# Altium integrated library Linear Technology Power Management Battery Management.IntLib: 626 symbols (part 18 of 56)
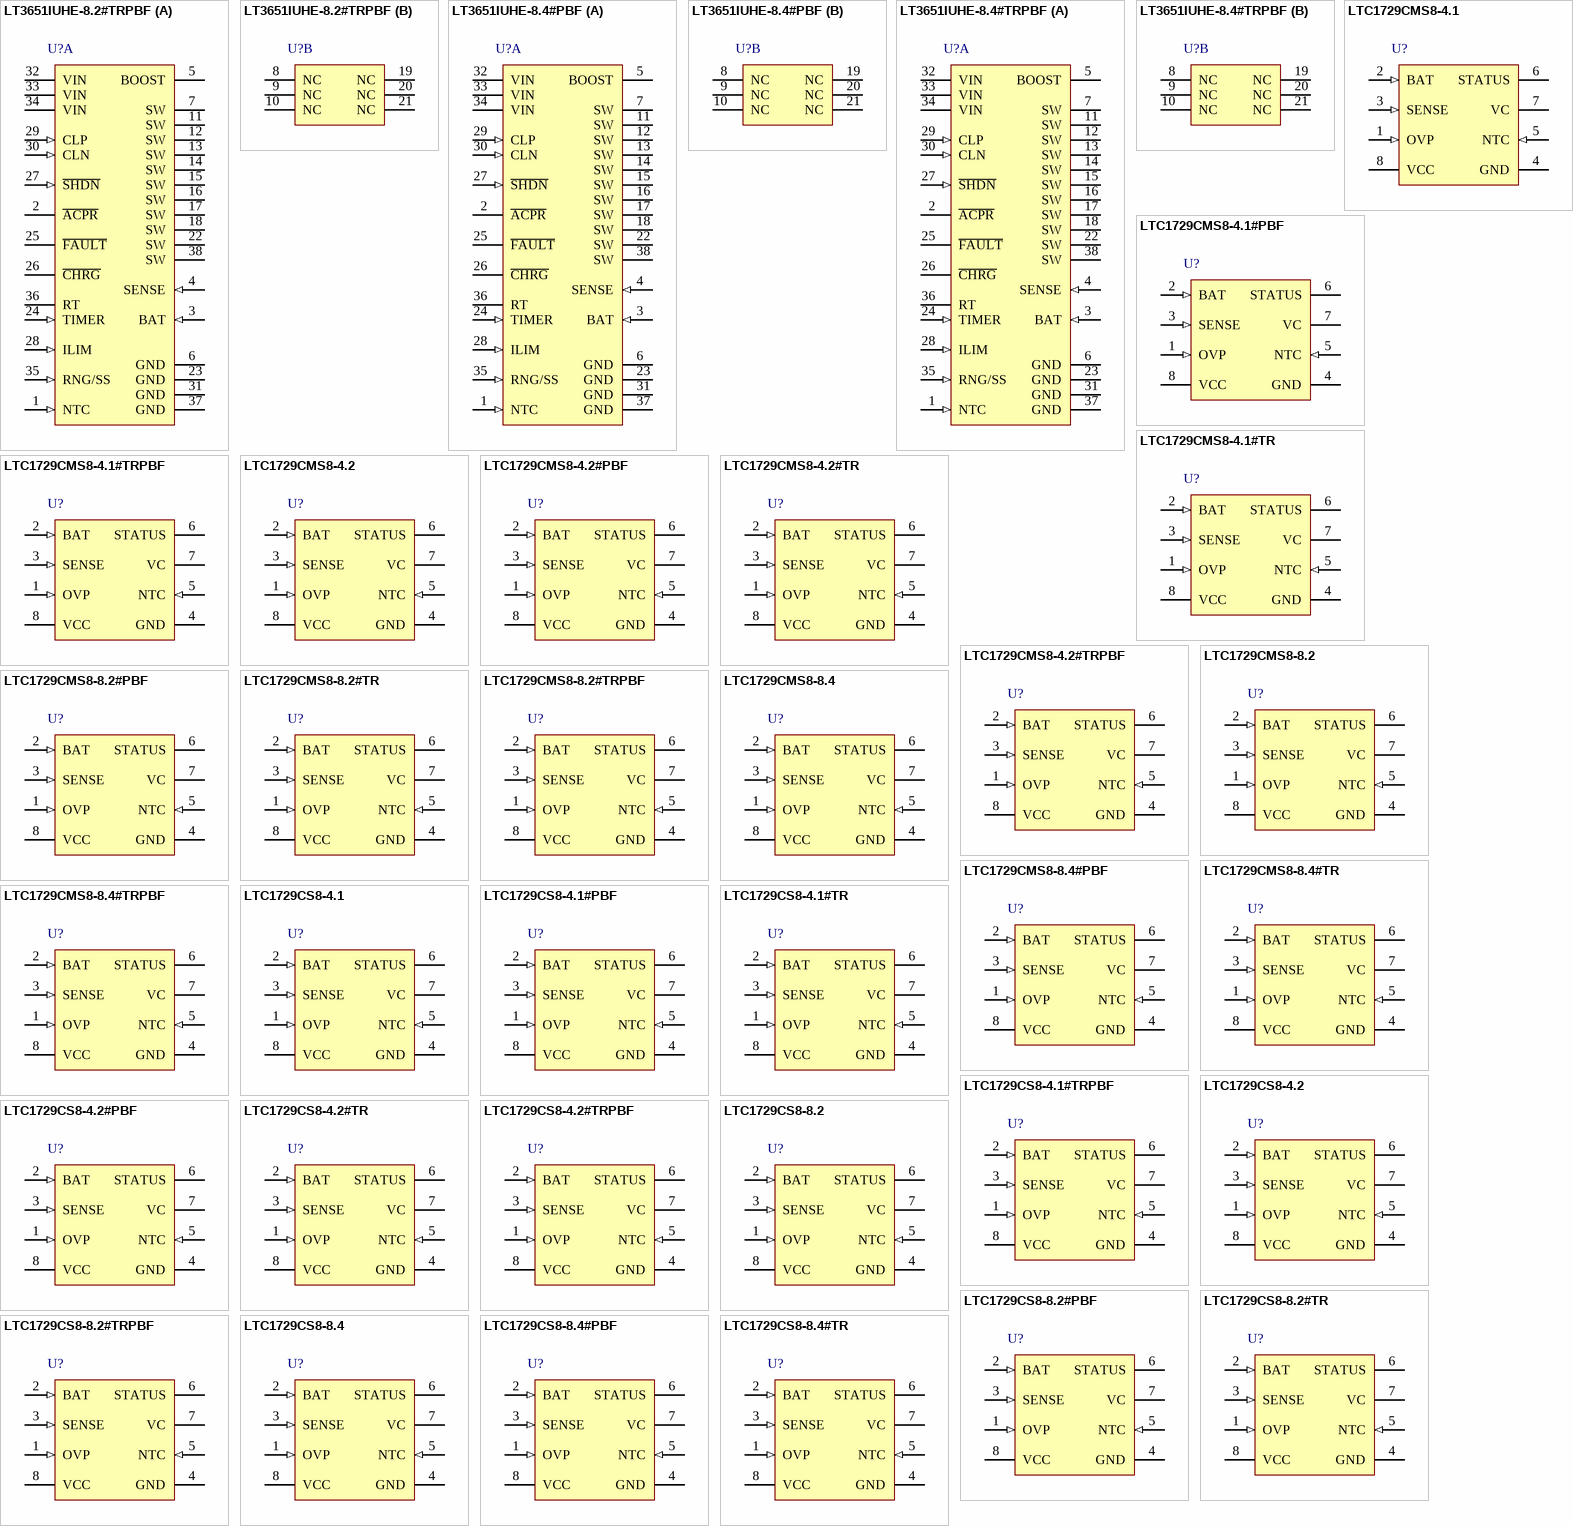
[diagram p39: symbols LT3651IUHE-8.2#TRPBF to LTC1729CS8-8.4#TR]

## LTC1729CS8-8.4#TR
designator U?
Li-Ion Battery Charger Termination Controller, 8-pin SOIC (S8-8), 0 to 70 degC, Tape and Reel; Manufacturer: Linear Technology; PartNumber: LTC1729CS8-8.4#TR; Battery Chemistry: Li-Ion, Li-Polymer, LiFePO4, NiCd, NiMH, Lead Acid; PackageVersion: Rev. G, 03/2012; PackageReference: S8-8; PackageDescription: 8-Pin Plastic Small Outline (Narrow .150 Inch), Body 4.9 x 3.9 mm, Pitch 1.27 mm; Supplier 1: Digi-Key; Supplier Part Number 1: LTC1729CS8-8.4#TR-ND; Packing: Tape and Reel; RoHS: FALSE; Type of Charger: Termination Controller; Mounting Technology: Surface Mount; ComponentLink1Description: Manufacturer URL; ComponentLink1URL: http://www.linear.com/; ComponentLink2Description: Datasheet; ComponentLink2URL: http://cds.linear.com/docs/en/datasheet/1729f.pdf; ComponentLink3Description: Package Specification; ComponentLink3URL: http://cds.linear.com/docs/en/packaging/05081610_G_SO8.pdf
footprint LT-S8-8_N (SOIC, 8-Leads, Body 5x4mm, Pitch 1.27mm, IPC Medium Density)
footprint LT-S8-8_L (SOIC, 8-Leads, Body 5x4mm, Pitch 1.27mm, IPC High Density)
footprint LT-S8-8_M (SOIC, 8-Leads, Body 5x4mm, Pitch 1.27mm, IPC Low Density)
pins: 1 OVP (in) "Connection to an Internal Precision ResistorDivider Used as a Voltage Feedback Monitor for Constant-Voltage Mode Charging.", 2 BAT (in) "Input to Battery Monitor Circuits and OVP Resistor Divider. The battery monitor circuits activate trickle charge preconditioning, battery present detection and C/10 current detection. This pin is in a high impedance state (See Datasheet)", 3 SENSE (in) "Input to C/10 Current Detection Circuit.This pin sinks 100uA during the Charge state which is used to program the C/10 current threshold.", 4 GND (power) "Ground.", 5 NTC (in) "Input to the NTC Thermistor Monitoring Circuits. When the voltage on this pin is above 2.79V (cold) or below 0.405V (hot), the state machine is locked in the present state and the timer is stopped. This is called the Hold (See Datasheet)", 6 STATUS (hiz) "Open-Drain Output for C/10 Charge Termination Detection Circuit. When in the Charge state,this pin is pulled low.Once the charge current drops below the C/10 current threshold for three seconds, the pull-down transistor is (See Datasheet)", 7 VC (oc) "Open-Drain Output for Turning Off the Charger. When this pin is open circuit, the charger is active. Normally this pin allows the charger to be active for three hours.", 8 VCC (power) "Input Supply. For 4.1V or 4.2V single cell operation, VCC should be between 8V and 28V with the IC turning off when VCC drops below 6V. For 2-cell applications, the undervoltage lockout is 10.4V with a minimum VCC of 12V. (See Datasheet)"

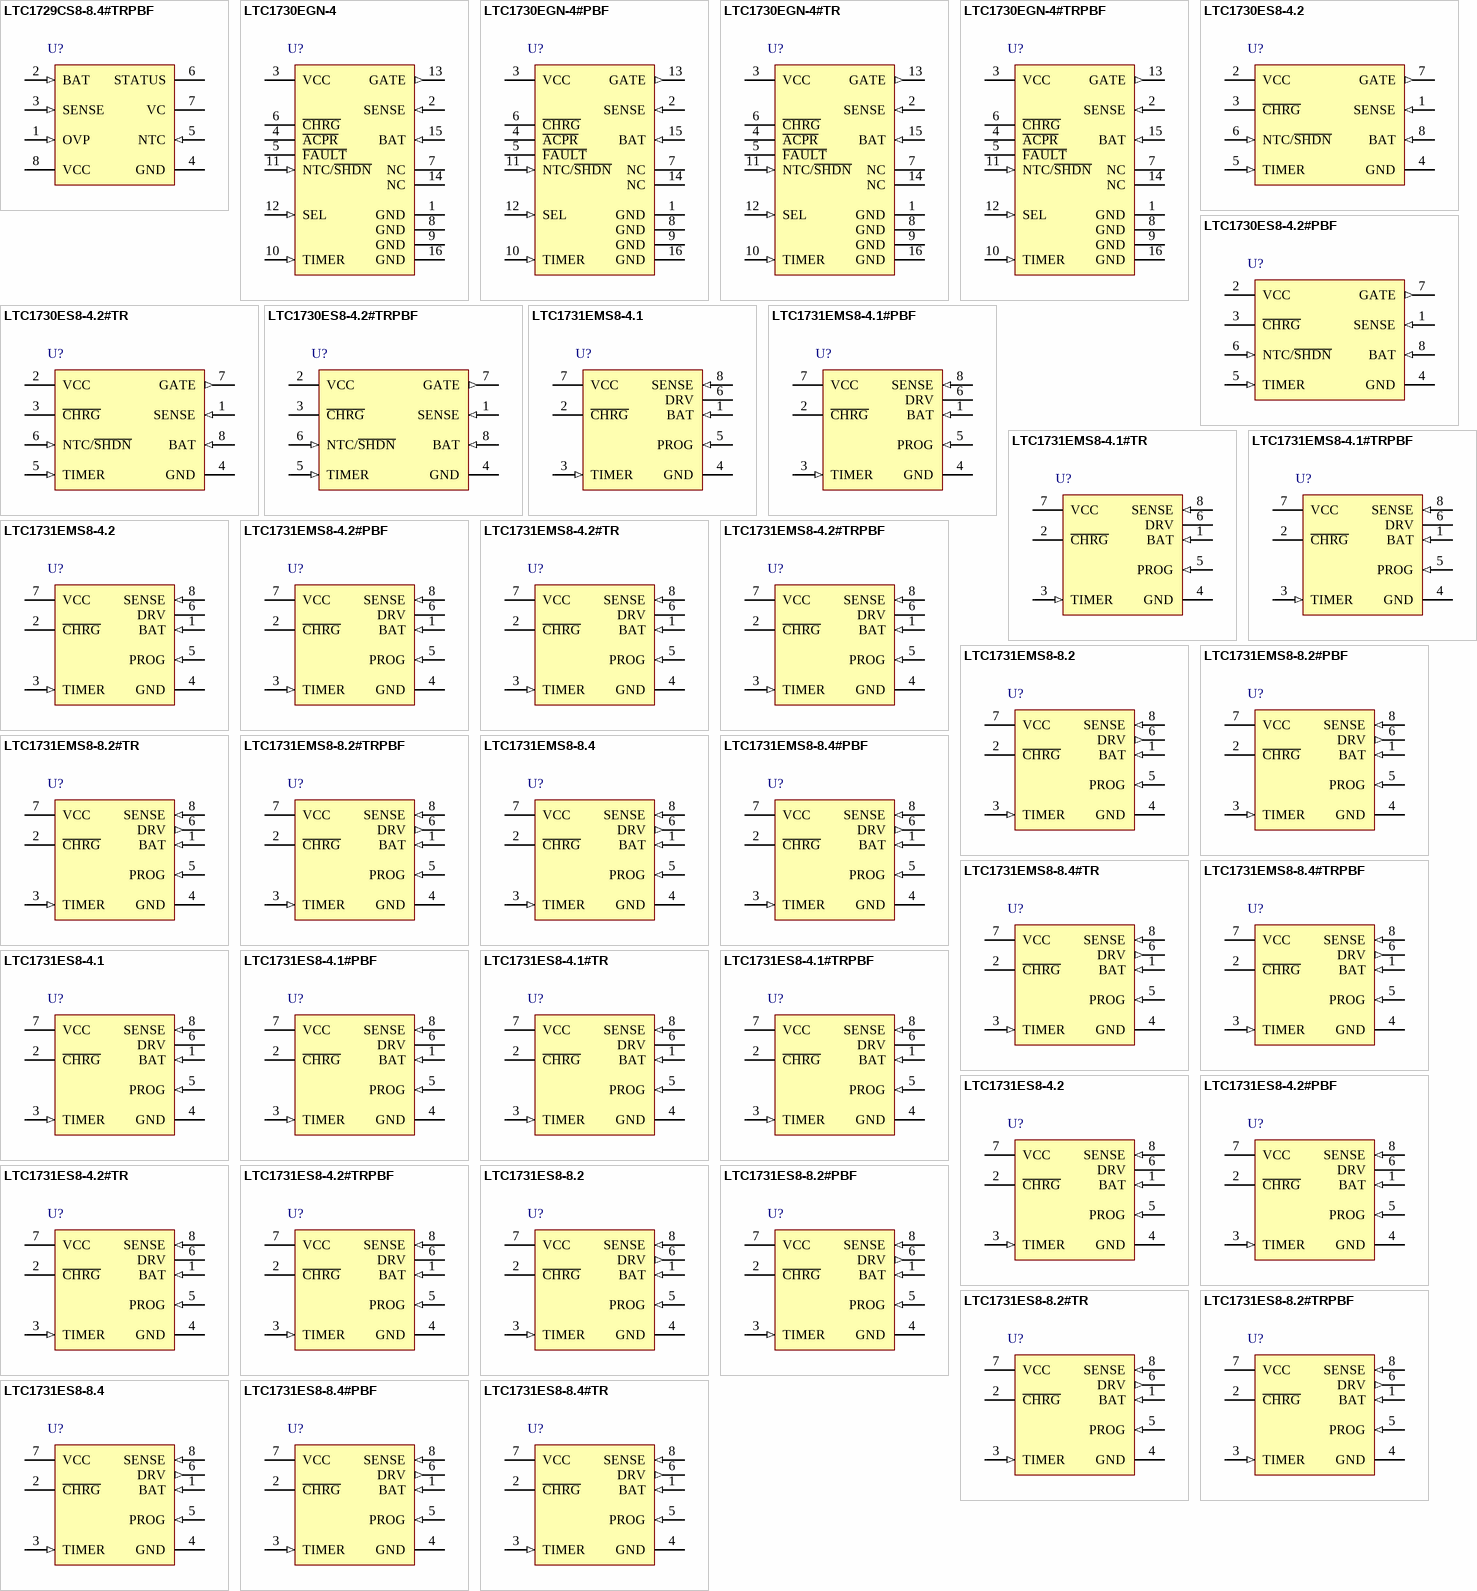
[diagram p7: symbols LTC1729CS8-8.4#TRPBF to LTC1731ES8-8.4#TR]

## LTC1729CS8-8.4#TRPBF
designator U?
Li-Ion Battery Charger Termination Controller, 8-pin SOIC (S8-8), 0 to 70 degC, Pb-Free, Tape and Reel; Manufacturer: Linear Technology; PartNumber: LTC1729CS8-8.4#TRPBF; Battery Chemistry: Li-Ion, Li-Polymer, LiFePO4, NiCd, NiMH, Lead Acid; PackageVersion: Rev. G, 03/2012; PackageReference: S8-8; PackageDescription: 8-Pin Plastic Small Outline (Narrow .150 Inch), Body 4.9 x 3.9 mm, Pitch 1.27 mm; Supplier 1: Digi-Key; Supplier Part Number 1: LTC1729CS8-8.4#TRPBF-ND; Packing: Tape and Reel; RoHS: TRUE; Type of Charger: Termination Controller; Mounting Technology: Surface Mount; ComponentLink1Description: Manufacturer URL; ComponentLink1URL: http://www.linear.com/; ComponentLink2Description: Datasheet; ComponentLink2URL: http://cds.linear.com/docs/en/datasheet/1729f.pdf; ComponentLink3Description: Package Specification; ComponentLink3URL: http://cds.linear.com/docs/en/packaging/05081610_G_SO8.pdf
footprint LT-S8-8_N (SOIC, 8-Leads, Body 5x4mm, Pitch 1.27mm, IPC Medium Density)
footprint LT-S8-8_L (SOIC, 8-Leads, Body 5x4mm, Pitch 1.27mm, IPC High Density)
footprint LT-S8-8_M (SOIC, 8-Leads, Body 5x4mm, Pitch 1.27mm, IPC Low Density)
pins: 1 OVP (in) "Connection to an Internal Precision ResistorDivider Used as a Voltage Feedback Monitor for Constant-Voltage Mode Charging.", 2 BAT (in) "Input to Battery Monitor Circuits and OVP Resistor Divider. The battery monitor circuits activate trickle charge preconditioning, battery present detection and C/10 current detection. This pin is in a high impedance state (See Datasheet)", 3 SENSE (in) "Input to C/10 Current Detection Circuit.This pin sinks 100uA during the Charge state which is used to program the C/10 current threshold.", 4 GND (power) "Ground.", 5 NTC (in) "Input to the NTC Thermistor Monitoring Circuits. When the voltage on this pin is above 2.79V (cold) or below 0.405V (hot), the state machine is locked in the present state and the timer is stopped. This is called the Hold (See Datasheet)", 6 STATUS (hiz) "Open-Drain Output for C/10 Charge Termination Detection Circuit. When in the Charge state,this pin is pulled low.Once the charge current drops below the C/10 current threshold for three seconds, the pull-down transistor is (See Datasheet)", 7 VC (oc) "Open-Drain Output for Turning Off the Charger. When this pin is open circuit, the charger is active. Normally this pin allows the charger to be active for three hours.", 8 VCC (power) "Input Supply. For 4.1V or 4.2V single cell operation, VCC should be between 8V and 28V with the IC turning off when VCC drops below 6V. For 2-cell applications, the undervoltage lockout is 10.4V with a minimum VCC of 12V. (See Datasheet)"

## LTC1730EGN-4
designator U?
Lithium-Ion Battery Pulse Charger with Overcurrent Protection, 4.5 to 12 V Vin, 16-pin SOP (GN-16), -40 to 85 degC; Manufacturer: Linear Technology; PartNumber: LTC1730EGN-4; Battery Chemistry: Li-Ion, Li-Polymer; Charge Termination: On-board timer; Float Voltage: 4.1 V, 4.2 V; Max Charge Current(A): 1.3; Number of Cells: 1; Vin Max(V): 12; Vin Min(V): 4.5; PackageVersion: Rev. B, 03/2012; PackageReference: GN-16; PackageDescription: 16-Pin Plastic SSOP, Body 4.9 x 3.9 mm, Pitch 0.635 mm; Supplier 1: Digi-Key; Supplier Part Number 1: LTC1730EGN-4-ND; RoHS: FALSE; Type of Charger: Pulse; Mounting Technology: Surface Mount; ComponentLink1Description: Manufacturer URL; ComponentLink1URL: http://www.linear.com/; ComponentLink2Description: Datasheet; ComponentLink2URL: http://cds.linear.com/docs/en/datasheet/1730fs.pdf; ComponentLink3Description: Package Specification; ComponentLink3URL: http://cds.linear.com/docs/en/packaging/05081641_B_GN16.pdf
footprint LT-GN-16_N (SOP, 16-Leads, Body 5x4mm, Pitch 0.635mm, IPC Medium Density)
footprint LT-GN-16_L (SOP, 16-Leads, Body 5x4mm, Pitch 0.635mm, IPC High Density)
footprint LT-GN-16_M (SOP, 16-Leads, Body 5x4mm, Pitch 0.635mm, IPC Low Density)
pins: 1 GND (power) "Electrical Ground Connection and provides a thermal path from the IC to the PC board copper. Use large copper pads and traces for maximum heat transfer.", 2 SENSE (in) "Maximum Overcurrent Sense Input. A sense resistor (RSENSE) should be connected from VCC to the SENSE pin. When the voltage drop across RSENSE exceeds 100mV, the pass transistor immediately turns off and turns back on after a (See Datasheet)", 3 VCC (power) "Positive Input Supply Voltage (4.5V =< VCC =< 13.2V). Bypass this pin with a 1uF capacitor in series with a 4.7ohm resistor. An RC network from the VCC pin to the GATE pin is also required. The capacitor controls the slew (See Datasheet)", 4 ~{ACPR} (hiz) "Wall Adapter Present Open-Drain Output. When the input voltage (wall adapter) is applied to the LTC1730, this pin is pulled to ground by an internal N-channel MOSFET. This output can sink up to 5mA suitable for driving an (See Datasheet)", 5 ~{FAULT} (hiz) "Fault Condition Detection Open-Drain Output. This output can sink up to 3mA suitable for driving an external LED.", 6 ~{CHRG} (hiz) "Open-Drain Charge Status Output. When a depleted battery is being charged, the C\H\R\G\ pin is pulled to ground by an N-MOSFET capable of driving an LED. Once the duty cycle at the GATE pin drops below 10%, the N-MOSFET (See Datasheet)", 7 NC "No Internal Connection. Connecting these pins to ground will help transfer heat from the package.", 8 GND (power) "Electrical Ground Connection and provides a thermal path from the IC to the PC board copper. Use large copper pads and traces for maximum heat transfer.", 9 GND (power) "Electrical Ground Connection and provides a thermal path from the IC to the PC board copper. Use large copper pads and traces for maximum heat transfer.", 10 TIMER (in) "Timer Set Pin. The timer period is set by a capacitor (CTIMER) to ground. The timer period is: tTIMER = (CTIMER x 3Hr)/(0.1uF). The minimum ON time, OFF time and the overcurrent time-out period are all set by the same timer (See Datasheet)", 11 NTC/~{SHDN} (in), 12 SEL (in) "4.1V/4.2V Battery Selection Input. Grounding this pin will set the output float voltage to 4.1V, while connecting to VCC will set the voltage to 4.2V.", 13 GATE (out) "Gate Drive Output Pin for Internal and External Pass Transistors. An external N-MOSFET transistor can be connected in parallel with the internal transistor to reduce the on-resistance for higher charge current. In this case, (See Datasheet)", 14 NC "No Internal Connection. Connecting these pins to ground will help transfer heat from the package.", 15 BAT (in) "Battery Sense Input Pin. This pin is clamped to 4.7V if the battery is disconnected while charging. An internal resistor divider presets the final float voltage to 4.2V.", 16 GND (power) "Electrical Ground Connection and provides a thermal path from the IC to the PC board copper. Use large copper pads and traces for maximum heat transfer."

## LTC1730EGN-4#PBF
designator U?
Lithium-Ion Battery Pulse Charger with Overcurrent Protection, 4.5 to 12 V Vin, 16-pin SOP (GN-16), -40 to 85 degC, Pb-Free; Manufacturer: Linear Technology; PartNumber: LTC1730EGN-4#PBF; Battery Chemistry: Li-Ion, Li-Polymer; Charge Termination: On-board timer; Float Voltage: 4.1 V, 4.2 V; Max Charge Current(A): 1.3; Number of Cells: 1; Vin Max(V): 12; Vin Min(V): 4.5; PackageVersion: Rev. B, 03/2012; PackageReference: GN-16; PackageDescription: 16-Pin Plastic SSOP, Body 4.9 x 3.9 mm, Pitch 0.635 mm; Supplier 1: Digi-Key; Supplier Part Number 1: LTC1730EGN-4#PBF-ND; Supplier 2: Farnell; Supplier Part Number 2: 1648009; RoHS: TRUE; Type of Charger: Pulse; Mounting Technology: Surface Mount; ComponentLink1Description: Manufacturer URL; ComponentLink1URL: http://www.linear.com/; ComponentLink2Description: Datasheet; ComponentLink2URL: http://cds.linear.com/docs/en/datasheet/1730fs.pdf; ComponentLink3Description: Package Specification; ComponentLink3URL: http://cds.linear.com/docs/en/packaging/05081641_B_GN16.pdf
footprint LT-GN-16_N (SOP, 16-Leads, Body 5x4mm, Pitch 0.635mm, IPC Medium Density)
footprint LT-GN-16_L (SOP, 16-Leads, Body 5x4mm, Pitch 0.635mm, IPC High Density)
footprint LT-GN-16_M (SOP, 16-Leads, Body 5x4mm, Pitch 0.635mm, IPC Low Density)
pins: 1 GND (power) "Electrical Ground Connection and provides a thermal path from the IC to the PC board copper. Use large copper pads and traces for maximum heat transfer.", 2 SENSE (in) "Maximum Overcurrent Sense Input. A sense resistor (RSENSE) should be connected from VCC to the SENSE pin. When the voltage drop across RSENSE exceeds 100mV, the pass transistor immediately turns off and turns back on after a (See Datasheet)", 3 VCC (power) "Positive Input Supply Voltage (4.5V =< VCC =< 13.2V). Bypass this pin with a 1uF capacitor in series with a 4.7ohm resistor. An RC network from the VCC pin to the GATE pin is also required. The capacitor controls the slew (See Datasheet)", 4 ~{ACPR} (hiz) "Wall Adapter Present Open-Drain Output. When the input voltage (wall adapter) is applied to the LTC1730, this pin is pulled to ground by an internal N-channel MOSFET. This output can sink up to 5mA suitable for driving an (See Datasheet)", 5 ~{FAULT} (hiz) "Fault Condition Detection Open-Drain Output. This output can sink up to 3mA suitable for driving an external LED.", 6 ~{CHRG} (hiz) "Open-Drain Charge Status Output. When a depleted battery is being charged, the C\H\R\G\ pin is pulled to ground by an N-MOSFET capable of driving an LED. Once the duty cycle at the GATE pin drops below 10%, the N-MOSFET (See Datasheet)", 7 NC "No Internal Connection. Connecting these pins to ground will help transfer heat from the package.", 8 GND (power) "Electrical Ground Connection and provides a thermal path from the IC to the PC board copper. Use large copper pads and traces for maximum heat transfer.", 9 GND (power) "Electrical Ground Connection and provides a thermal path from the IC to the PC board copper. Use large copper pads and traces for maximum heat transfer.", 10 TIMER (in) "Timer Set Pin. The timer period is set by a capacitor (CTIMER) to ground. The timer period is: tTIMER = (CTIMER x 3Hr)/(0.1uF). The minimum ON time, OFF time and the overcurrent time-out period are all set by the same timer (See Datasheet)", 11 NTC/~{SHDN} (in), 12 SEL (in) "4.1V/4.2V Battery Selection Input. Grounding this pin will set the output float voltage to 4.1V, while connecting to VCC will set the voltage to 4.2V.", 13 GATE (out) "Gate Drive Output Pin for Internal and External Pass Transistors. An external N-MOSFET transistor can be connected in parallel with the internal transistor to reduce the on-resistance for higher charge current. In this case, (See Datasheet)", 14 NC "No Internal Connection. Connecting these pins to ground will help transfer heat from the package.", 15 BAT (in) "Battery Sense Input Pin. This pin is clamped to 4.7V if the battery is disconnected while charging. An internal resistor divider presets the final float voltage to 4.2V.", 16 GND (power) "Electrical Ground Connection and provides a thermal path from the IC to the PC board copper. Use large copper pads and traces for maximum heat transfer."

## LTC1730EGN-4#TR
designator U?
Lithium-Ion Battery Pulse Charger with Overcurrent Protection, 4.5 to 12 V Vin, 16-pin SOP (GN-16), -40 to 85 degC, Tape and Reel; Manufacturer: Linear Technology; PartNumber: LTC1730EGN-4#TR; Battery Chemistry: Li-Ion, Li-Polymer; Charge Termination: On-board timer; Float Voltage: 4.1 V, 4.2 V; Max Charge Current(A): 1.3; Number of Cells: 1; Vin Max(V): 12; Vin Min(V): 4.5; PackageVersion: Rev. B, 03/2012; PackageReference: GN-16; PackageDescription: 16-Pin Plastic SSOP, Body 4.9 x 3.9 mm, Pitch 0.635 mm; Supplier 1: Digi-Key; Supplier Part Number 1: LTC1730EGN-4TR-ND; Packing: Tape and Reel; RoHS: FALSE; Type of Charger: Pulse; Mounting Technology: Surface Mount; ComponentLink1Description: Manufacturer URL; ComponentLink1URL: http://www.linear.com/; ComponentLink2Description: Datasheet; ComponentLink2URL: http://cds.linear.com/docs/en/datasheet/1730fs.pdf; ComponentLink3Description: Package Specification; ComponentLink3URL: http://cds.linear.com/docs/en/packaging/05081641_B_GN16.pdf
footprint LT-GN-16_N (SOP, 16-Leads, Body 5x4mm, Pitch 0.635mm, IPC Medium Density)
footprint LT-GN-16_L (SOP, 16-Leads, Body 5x4mm, Pitch 0.635mm, IPC High Density)
footprint LT-GN-16_M (SOP, 16-Leads, Body 5x4mm, Pitch 0.635mm, IPC Low Density)
pins: 1 GND (power) "Electrical Ground Connection and provides a thermal path from the IC to the PC board copper. Use large copper pads and traces for maximum heat transfer.", 2 SENSE (in) "Maximum Overcurrent Sense Input. A sense resistor (RSENSE) should be connected from VCC to the SENSE pin. When the voltage drop across RSENSE exceeds 100mV, the pass transistor immediately turns off and turns back on after a (See Datasheet)", 3 VCC (power) "Positive Input Supply Voltage (4.5V =< VCC =< 13.2V). Bypass this pin with a 1uF capacitor in series with a 4.7ohm resistor. An RC network from the VCC pin to the GATE pin is also required. The capacitor controls the slew (See Datasheet)", 4 ~{ACPR} (hiz) "Wall Adapter Present Open-Drain Output. When the input voltage (wall adapter) is applied to the LTC1730, this pin is pulled to ground by an internal N-channel MOSFET. This output can sink up to 5mA suitable for driving an (See Datasheet)", 5 ~{FAULT} (hiz) "Fault Condition Detection Open-Drain Output. This output can sink up to 3mA suitable for driving an external LED.", 6 ~{CHRG} (hiz) "Open-Drain Charge Status Output. When a depleted battery is being charged, the C\H\R\G\ pin is pulled to ground by an N-MOSFET capable of driving an LED. Once the duty cycle at the GATE pin drops below 10%, the N-MOSFET (See Datasheet)", 7 NC "No Internal Connection. Connecting these pins to ground will help transfer heat from the package.", 8 GND (power) "Electrical Ground Connection and provides a thermal path from the IC to the PC board copper. Use large copper pads and traces for maximum heat transfer.", 9 GND (power) "Electrical Ground Connection and provides a thermal path from the IC to the PC board copper. Use large copper pads and traces for maximum heat transfer.", 10 TIMER (in) "Timer Set Pin. The timer period is set by a capacitor (CTIMER) to ground. The timer period is: tTIMER = (CTIMER x 3Hr)/(0.1uF). The minimum ON time, OFF time and the overcurrent time-out period are all set by the same timer (See Datasheet)", 11 NTC/~{SHDN} (in), 12 SEL (in) "4.1V/4.2V Battery Selection Input. Grounding this pin will set the output float voltage to 4.1V, while connecting to VCC will set the voltage to 4.2V.", 13 GATE (out) "Gate Drive Output Pin for Internal and External Pass Transistors. An external N-MOSFET transistor can be connected in parallel with the internal transistor to reduce the on-resistance for higher charge current. In this case, (See Datasheet)", 14 NC "No Internal Connection. Connecting these pins to ground will help transfer heat from the package.", 15 BAT (in) "Battery Sense Input Pin. This pin is clamped to 4.7V if the battery is disconnected while charging. An internal resistor divider presets the final float voltage to 4.2V.", 16 GND (power) "Electrical Ground Connection and provides a thermal path from the IC to the PC board copper. Use large copper pads and traces for maximum heat transfer."

## LTC1730EGN-4#TRPBF
designator U?
Lithium-Ion Battery Pulse Charger with Overcurrent Protection, 4.5 to 12 V Vin, 16-pin SOP (GN-16), -40 to 85 degC, Pb-Free, Tape and Reel; Manufacturer: Linear Technology; PartNumber: LTC1730EGN-4#TRPBF; Battery Chemistry: Li-Ion, Li-Polymer; Charge Termination: On-board timer; Float Voltage: 4.1 V, 4.2 V; Max Charge Current(A): 1.3; Number of Cells: 1; Vin Max(V): 12; Vin Min(V): 4.5; PackageVersion: Rev. B, 03/2012; PackageReference: GN-16; PackageDescription: 16-Pin Plastic SSOP, Body 4.9 x 3.9 mm, Pitch 0.635 mm; Supplier 1: Digi-Key; Supplier Part Number 1: LTC1730EGN-4#TRPBF-ND; Packing: Tape and Reel; RoHS: TRUE; Type of Charger: Pulse; Mounting Technology: Surface Mount; ComponentLink1Description: Manufacturer URL; ComponentLink1URL: http://www.linear.com/; ComponentLink2Description: Datasheet; ComponentLink2URL: http://cds.linear.com/docs/en/datasheet/1730fs.pdf; ComponentLink3Description: Package Specification; ComponentLink3URL: http://cds.linear.com/docs/en/packaging/05081641_B_GN16.pdf
footprint LT-GN-16_N (SOP, 16-Leads, Body 5x4mm, Pitch 0.635mm, IPC Medium Density)
footprint LT-GN-16_L (SOP, 16-Leads, Body 5x4mm, Pitch 0.635mm, IPC High Density)
footprint LT-GN-16_M (SOP, 16-Leads, Body 5x4mm, Pitch 0.635mm, IPC Low Density)
pins: 1 GND (power) "Electrical Ground Connection and provides a thermal path from the IC to the PC board copper. Use large copper pads and traces for maximum heat transfer.", 2 SENSE (in) "Maximum Overcurrent Sense Input. A sense resistor (RSENSE) should be connected from VCC to the SENSE pin. When the voltage drop across RSENSE exceeds 100mV, the pass transistor immediately turns off and turns back on after a (See Datasheet)", 3 VCC (power) "Positive Input Supply Voltage (4.5V =< VCC =< 13.2V). Bypass this pin with a 1uF capacitor in series with a 4.7ohm resistor. An RC network from the VCC pin to the GATE pin is also required. The capacitor controls the slew (See Datasheet)", 4 ~{ACPR} (hiz) "Wall Adapter Present Open-Drain Output. When the input voltage (wall adapter) is applied to the LTC1730, this pin is pulled to ground by an internal N-channel MOSFET. This output can sink up to 5mA suitable for driving an (See Datasheet)", 5 ~{FAULT} (hiz) "Fault Condition Detection Open-Drain Output. This output can sink up to 3mA suitable for driving an external LED.", 6 ~{CHRG} (hiz) "Open-Drain Charge Status Output. When a depleted battery is being charged, the C\H\R\G\ pin is pulled to ground by an N-MOSFET capable of driving an LED. Once the duty cycle at the GATE pin drops below 10%, the N-MOSFET (See Datasheet)", 7 NC "No Internal Connection. Connecting these pins to ground will help transfer heat from the package.", 8 GND (power) "Electrical Ground Connection and provides a thermal path from the IC to the PC board copper. Use large copper pads and traces for maximum heat transfer.", 9 GND (power) "Electrical Ground Connection and provides a thermal path from the IC to the PC board copper. Use large copper pads and traces for maximum heat transfer.", 10 TIMER (in) "Timer Set Pin. The timer period is set by a capacitor (CTIMER) to ground. The timer period is: tTIMER = (CTIMER x 3Hr)/(0.1uF). The minimum ON time, OFF time and the overcurrent time-out period are all set by the same timer (See Datasheet)", 11 NTC/~{SHDN} (in), 12 SEL (in) "4.1V/4.2V Battery Selection Input. Grounding this pin will set the output float voltage to 4.1V, while connecting to VCC will set the voltage to 4.2V.", 13 GATE (out) "Gate Drive Output Pin for Internal and External Pass Transistors. An external N-MOSFET transistor can be connected in parallel with the internal transistor to reduce the on-resistance for higher charge current. In this case, (See Datasheet)", 14 NC "No Internal Connection. Connecting these pins to ground will help transfer heat from the package.", 15 BAT (in) "Battery Sense Input Pin. This pin is clamped to 4.7V if the battery is disconnected while charging. An internal resistor divider presets the final float voltage to 4.2V.", 16 GND (power) "Electrical Ground Connection and provides a thermal path from the IC to the PC board copper. Use large copper pads and traces for maximum heat transfer."

## LTC1730ES8-4.2
designator U?
Lithium-Ion Battery Pulse Charger with Overcurrent Protection, 4.5 to 12 V Vin, 8-pin SOIC (S8-8), -40 to 85 degC; Manufacturer: Linear Technology; PartNumber: LTC1730ES8-4.2; Battery Chemistry: Li-Ion, Li-Polymer; Charge Termination: On-board timer; Float Voltage: 4.2 V; Max Charge Current(A): 1.3; Number of Cells: 1; Vin Max(V): 12; Vin Min(V): 4.5; PackageVersion: Rev. G, 03/2012; PackageReference: S8-8; PackageDescription: 8-Pin Plastic Small Outline (Narrow .150 Inch), Body 4.9 x 3.9 mm, Pitch 1.27 mm; Supplier 1: Digi-Key; Supplier Part Number 1: LTC1730ES8-4.2-ND; RoHS: FALSE; Type of Charger: Pulse; Mounting Technology: Surface Mount; ComponentLink1Description: Manufacturer URL; ComponentLink1URL: http://www.linear.com/; ComponentLink2Description: Datasheet; ComponentLink2URL: http://cds.linear.com/docs/en/datasheet/1730fs.pdf; ComponentLink3Description: Package Specification; ComponentLink3URL: http://cds.linear.com/docs/en/packaging/05081610_G_SO8.pdf
footprint LT-S8-8_N (SOIC, 8-Leads, Body 5x4mm, Pitch 1.27mm, IPC Medium Density)
footprint LT-S8-8_L (SOIC, 8-Leads, Body 5x4mm, Pitch 1.27mm, IPC High Density)
footprint LT-S8-8_M (SOIC, 8-Leads, Body 5x4mm, Pitch 1.27mm, IPC Low Density)
pins: 1 SENSE (in) "Maximum Overcurrent Sense Input. A sense resistor (RSENSE) should be connected from VCC to the SENSE pin. When the voltage drop across RSENSE exceeds 100mV, the pass transistor immediately turns off and turns back on after a (See Datasheet)", 2 VCC (power) "Positive Input Supply Voltage (4.5V <= VCC <=13.2V). Bypass this pin with a 1uF capacitor in series with a 4.7ohm resistor. An RC network from the VCC pin to the GATE pin is also required. The capacitor controls the slew (See Datasheet)", 3 ~{CHRG} (hiz) "Open-Drain Charge Status Output. When a depleted battery is being charged, the C\H\R\G\ pin is pulled to ground by an N-MOSFET capable of driving an LED. Once the duty cycle at the GATE pin drops below 10%, the N-MOSFET (See Datasheet)", 4 GND (power) "Electrical Ground Connection and provides a thermal path from the IC to the PC board copper. Use large copper pads and traces for maximum heat transfer.", 5 TIMER (in) "Timer Set Pin. The timer period is set by a capacitor (CTIMER) to ground. The timer period is: tTIMER = (CTIMER x 3Hr)/(0.1uF). The minimum ON time,OFF time and the overcurrent time-out period are all set by the same timer (See Datasheet)", 6 NTC/~{SHDN} (in) "Input to the NTC (Negative Temperature Coefficient) Thermistor Monitoring and Shutdown Circuitry. With an external 10k ohm NTC thermistor to ground and a 1% resistor to VCC, this pin can sense the temperature of the battery (See Datasheet)", 7 GATE (out) "Gate Drive Output Pin for Internal and External Pass Transistors. An external N-MOSFET transistor can be connected in parallel with the internal transistor to reduce the on-resistance for higher charge current. In this case, (See Datasheet)", 8 BAT (in) "Battery Sense Input Pin. This pin is clamped to 4.7V if the battery is disconnected while charging. An internal resistor divider presets the final float voltage to 4.2V.If the voltage at the BAT pin drops 150mV below final (See Datasheet)"

## LTC1730ES8-4.2#PBF
designator U?
Lithium-Ion Battery Pulse Charger with Overcurrent Protection, 4.5 to 12 V Vin, 8-pin SOIC (S8-8), -40 to 85 degC, Pb-Free; Manufacturer: Linear Technology; PartNumber: LTC1730ES8-4.2#PBF; Battery Chemistry: Li-Ion, Li-Polymer; Charge Termination: On-board timer; Float Voltage: 4.2 V; Max Charge Current(A): 1.3; Number of Cells: 1; Vin Max(V): 12; Vin Min(V): 4.5; PackageVersion: Rev. G, 03/2012; PackageReference: S8-8; PackageDescription: 8-Pin Plastic Small Outline (Narrow .150 Inch), Body 4.9 x 3.9 mm, Pitch 1.27 mm; Supplier 1: Digi-Key; Supplier Part Number 1: LTC1730ES8-4.2#PBF-ND; Supplier 2: Newark; Supplier Part Number 2: 58M0651; RoHS: TRUE; Type of Charger: Pulse; Mounting Technology: Surface Mount; ComponentLink1Description: Manufacturer URL; ComponentLink1URL: http://www.linear.com/; ComponentLink2Description: Datasheet; ComponentLink2URL: http://cds.linear.com/docs/en/datasheet/1730fs.pdf; ComponentLink3Description: Package Specification; ComponentLink3URL: http://cds.linear.com/docs/en/packaging/05081610_G_SO8.pdf
footprint LT-S8-8_N (SOIC, 8-Leads, Body 5x4mm, Pitch 1.27mm, IPC Medium Density)
footprint LT-S8-8_L (SOIC, 8-Leads, Body 5x4mm, Pitch 1.27mm, IPC High Density)
footprint LT-S8-8_M (SOIC, 8-Leads, Body 5x4mm, Pitch 1.27mm, IPC Low Density)
pins: 1 SENSE (in) "Maximum Overcurrent Sense Input. A sense resistor (RSENSE) should be connected from VCC to the SENSE pin. When the voltage drop across RSENSE exceeds 100mV, the pass transistor immediately turns off and turns back on after a (See Datasheet)", 2 VCC (power) "Positive Input Supply Voltage (4.5V <= VCC <=13.2V). Bypass this pin with a 1uF capacitor in series with a 4.7ohm resistor. An RC network from the VCC pin to the GATE pin is also required. The capacitor controls the slew (See Datasheet)", 3 ~{CHRG} (hiz) "Open-Drain Charge Status Output. When a depleted battery is being charged, the C\H\R\G\ pin is pulled to ground by an N-MOSFET capable of driving an LED. Once the duty cycle at the GATE pin drops below 10%, the N-MOSFET (See Datasheet)", 4 GND (power) "Electrical Ground Connection and provides a thermal path from the IC to the PC board copper. Use large copper pads and traces for maximum heat transfer.", 5 TIMER (in) "Timer Set Pin. The timer period is set by a capacitor (CTIMER) to ground. The timer period is: tTIMER = (CTIMER x 3Hr)/(0.1uF). The minimum ON time,OFF time and the overcurrent time-out period are all set by the same timer (See Datasheet)", 6 NTC/~{SHDN} (in) "Input to the NTC (Negative Temperature Coefficient) Thermistor Monitoring and Shutdown Circuitry. With an external 10k ohm NTC thermistor to ground and a 1% resistor to VCC, this pin can sense the temperature of the battery (See Datasheet)", 7 GATE (out) "Gate Drive Output Pin for Internal and External Pass Transistors. An external N-MOSFET transistor can be connected in parallel with the internal transistor to reduce the on-resistance for higher charge current. In this case, (See Datasheet)", 8 BAT (in) "Battery Sense Input Pin. This pin is clamped to 4.7V if the battery is disconnected while charging. An internal resistor divider presets the final float voltage to 4.2V.If the voltage at the BAT pin drops 150mV below final (See Datasheet)"

## LTC1730ES8-4.2#TR
designator U?
Lithium-Ion Battery Pulse Charger with Overcurrent Protection, 4.5 to 12 V Vin, 8-pin SOIC (S8-8), -40 to 85 degC, Tape and Reel; Manufacturer: Linear Technology; PartNumber: LTC1730ES8-4.2#TR; Battery Chemistry: Li-Ion, Li-Polymer; Charge Termination: On-board timer; Float Voltage: 4.2 V; Max Charge Current(A): 1.3; Number of Cells: 1; Vin Max(V): 12; Vin Min(V): 4.5; PackageVersion: Rev. G, 03/2012; PackageReference: S8-8; PackageDescription: 8-Pin Plastic Small Outline (Narrow .150 Inch), Body 4.9 x 3.9 mm, Pitch 1.27 mm; Supplier 1: Digi-Key; Supplier Part Number 1: LTC1730ES8-4.2TR-ND; Packing: Tape and Reel; RoHS: FALSE; Type of Charger: Pulse; Mounting Technology: Surface Mount; ComponentLink1Description: Manufacturer URL; ComponentLink1URL: http://www.linear.com/; ComponentLink2Description: Datasheet; ComponentLink2URL: http://cds.linear.com/docs/en/datasheet/1730fs.pdf; ComponentLink3Description: Package Specification; ComponentLink3URL: http://cds.linear.com/docs/en/packaging/05081610_G_SO8.pdf
footprint LT-S8-8_N (SOIC, 8-Leads, Body 5x4mm, Pitch 1.27mm, IPC Medium Density)
footprint LT-S8-8_L (SOIC, 8-Leads, Body 5x4mm, Pitch 1.27mm, IPC High Density)
footprint LT-S8-8_M (SOIC, 8-Leads, Body 5x4mm, Pitch 1.27mm, IPC Low Density)
pins: 1 SENSE (in) "Maximum Overcurrent Sense Input. A sense resistor (RSENSE) should be connected from VCC to the SENSE pin. When the voltage drop across RSENSE exceeds 100mV, the pass transistor immediately turns off and turns back on after a (See Datasheet)", 2 VCC (power) "Positive Input Supply Voltage (4.5V <= VCC <=13.2V). Bypass this pin with a 1uF capacitor in series with a 4.7ohm resistor. An RC network from the VCC pin to the GATE pin is also required. The capacitor controls the slew (See Datasheet)", 3 ~{CHRG} (hiz) "Open-Drain Charge Status Output. When a depleted battery is being charged, the C\H\R\G\ pin is pulled to ground by an N-MOSFET capable of driving an LED. Once the duty cycle at the GATE pin drops below 10%, the N-MOSFET (See Datasheet)", 4 GND (power) "Electrical Ground Connection and provides a thermal path from the IC to the PC board copper. Use large copper pads and traces for maximum heat transfer.", 5 TIMER (in) "Timer Set Pin. The timer period is set by a capacitor (CTIMER) to ground. The timer period is: tTIMER = (CTIMER x 3Hr)/(0.1uF). The minimum ON time,OFF time and the overcurrent time-out period are all set by the same timer (See Datasheet)", 6 NTC/~{SHDN} (in) "Input to the NTC (Negative Temperature Coefficient) Thermistor Monitoring and Shutdown Circuitry. With an external 10k ohm NTC thermistor to ground and a 1% resistor to VCC, this pin can sense the temperature of the battery (See Datasheet)", 7 GATE (out) "Gate Drive Output Pin for Internal and External Pass Transistors. An external N-MOSFET transistor can be connected in parallel with the internal transistor to reduce the on-resistance for higher charge current. In this case, (See Datasheet)", 8 BAT (in) "Battery Sense Input Pin. This pin is clamped to 4.7V if the battery is disconnected while charging. An internal resistor divider presets the final float voltage to 4.2V.If the voltage at the BAT pin drops 150mV below final (See Datasheet)"

## LTC1730ES8-4.2#TRPBF
designator U?
Lithium-Ion Battery Pulse Charger with Overcurrent Protection, 4.5 to 12 V Vin, 8-pin SOIC (S8-8), -40 to 85 degC, Pb-Free, Tape and Reel; Manufacturer: Linear Technology; PartNumber: LTC1730ES8-4.2#TRPBF; Battery Chemistry: Li-Ion, Li-Polymer; Charge Termination: On-board timer; Float Voltage: 4.2 V; Max Charge Current(A): 1.3; Number of Cells: 1; Vin Max(V): 12; Vin Min(V): 4.5; PackageVersion: Rev. G, 03/2012; PackageReference: S8-8; PackageDescription: 8-Pin Plastic Small Outline (Narrow .150 Inch), Body 4.9 x 3.9 mm, Pitch 1.27 mm; Supplier 1: Digi-Key; Supplier Part Number 1: LTC1730ES8-4.2#TRPBF-ND; Packing: Tape and Reel; RoHS: TRUE; Type of Charger: Pulse; Mounting Technology: Surface Mount; ComponentLink1Description: Manufacturer URL; ComponentLink1URL: http://www.linear.com/; ComponentLink2Description: Datasheet; ComponentLink2URL: http://cds.linear.com/docs/en/datasheet/1730fs.pdf; ComponentLink3Description: Package Specification; ComponentLink3URL: http://cds.linear.com/docs/en/packaging/05081610_G_SO8.pdf
footprint LT-S8-8_N (SOIC, 8-Leads, Body 5x4mm, Pitch 1.27mm, IPC Medium Density)
footprint LT-S8-8_L (SOIC, 8-Leads, Body 5x4mm, Pitch 1.27mm, IPC High Density)
footprint LT-S8-8_M (SOIC, 8-Leads, Body 5x4mm, Pitch 1.27mm, IPC Low Density)
pins: 1 SENSE (in) "Maximum Overcurrent Sense Input. A sense resistor (RSENSE) should be connected from VCC to the SENSE pin. When the voltage drop across RSENSE exceeds 100mV, the pass transistor immediately turns off and turns back on after a (See Datasheet)", 2 VCC (power) "Positive Input Supply Voltage (4.5V <= VCC <=13.2V). Bypass this pin with a 1uF capacitor in series with a 4.7ohm resistor. An RC network from the VCC pin to the GATE pin is also required. The capacitor controls the slew (See Datasheet)", 3 ~{CHRG} (hiz) "Open-Drain Charge Status Output. When a depleted battery is being charged, the C\H\R\G\ pin is pulled to ground by an N-MOSFET capable of driving an LED. Once the duty cycle at the GATE pin drops below 10%, the N-MOSFET (See Datasheet)", 4 GND (power) "Electrical Ground Connection and provides a thermal path from the IC to the PC board copper. Use large copper pads and traces for maximum heat transfer.", 5 TIMER (in) "Timer Set Pin. The timer period is set by a capacitor (CTIMER) to ground. The timer period is: tTIMER = (CTIMER x 3Hr)/(0.1uF). The minimum ON time,OFF time and the overcurrent time-out period are all set by the same timer (See Datasheet)", 6 NTC/~{SHDN} (in) "Input to the NTC (Negative Temperature Coefficient) Thermistor Monitoring and Shutdown Circuitry. With an external 10k ohm NTC thermistor to ground and a 1% resistor to VCC, this pin can sense the temperature of the battery (See Datasheet)", 7 GATE (out) "Gate Drive Output Pin for Internal and External Pass Transistors. An external N-MOSFET transistor can be connected in parallel with the internal transistor to reduce the on-resistance for higher charge current. In this case, (See Datasheet)", 8 BAT (in) "Battery Sense Input Pin. This pin is clamped to 4.7V if the battery is disconnected while charging. An internal resistor divider presets the final float voltage to 4.2V.If the voltage at the BAT pin drops 150mV below final (See Datasheet)"

## LTC1731EMS8-4.1
designator U?
Linear Charger with AC Adapter Detection, 4.5 to 12 V Vin, 8-pin SOP (MS8-8), -40 to 85 degC; Manufacturer: Linear Technology; PartNumber: LTC1731EMS8-4.1; Battery Chemistry: Li-Ion, Li-Polymer; Charge Termination: On-board timer; Float Voltage: 4.1 V; Number of Cells: 1; Vin Max(V): 12; Vin Min(V): 4.5; PackageVersion: Rev. G, 03/2012; PackageReference: MS8-8; PackageDescription: 8-Pin Plastic MSOP, Body 3 x 3 mm, Pitch 0.65 mm; Supplier 1: Digi-Key; Supplier Part Number 1: LTC1731EMS8-4.1-ND; RoHS: FALSE; Type of Charger: Linear; Mounting Technology: Surface Mount; ComponentLink1Description: Manufacturer URL; ComponentLink1URL: http://www.linear.com/; ComponentLink2Description: Datasheet; ComponentLink2URL: http://cds.linear.com/docs/en/datasheet/1731f.pdf; ComponentLink3Description: Package Specification; ComponentLink3URL: http://cds.linear.com/docs/en/packaging/05081660_G_MS8.pdf
footprint LT-MS8-8_N (SOP, 8-Leads, Body 3.1x3.1mm, Pitch 0.65mm, IPC Medium Density)
footprint LT-MS8-8_L (SOP, 8-Leads, Body 3.1x3.1mm, Pitch 0.65mm, IPC High Density)
footprint LT-MS8-8_M (SOP, 8-Leads, Body 3.1x3.1mm, Pitch 0.65mm, IPC Low Density)
pins: 1 BAT (in) "Battery Sense Input. A bypass capacitor of at least 10uF is required to keep the loop stable when the battery is not connected. A precision internal resistor divider sets the final float potential on this pin. The resistor (See Datasheet)", 2 ~{CHRG} (hiz) "Open-Drain Charge Status Output. When the battery is being charged, the C\H\R\G\ pin is pulled low by an internal N-channel MOSFET. When the charge current drops to 10% of the full-scale current for at least 0.32 seconds, (See Datasheet)", 3 TIMER (in) "Timer Capacitor and Constant-Voltage Mode Disable Input Pin. The timer period is set by placing a capacitor, CTIMER, to GND. The timer period is tTIMER =(CTIMER x 3 hours)/(0.1uF). When the TIMER pin is connected to VCC, the (See Datasheet)", 4 GND (power) "Ground Connection", 5 PROG (in) "Charge Current Program and Shutdown Input Pin. The charge current is programmed by connecting a resistor, RPROG to ground. The charge current is IBAT = (VPROG x 800ohm)/(RPROG x RSENSE). The IC can be forced into shutdown by (See Datasheet)", 6 DRV (hiz) "Drive Output Pin for the P-Channel MOSFET or PNP Transistor. The impedance is high at this pin, therefore, a high beta PNP pass transistor should be used. The DRV pin is internally clamped to 6.5V below VCC.", 7 VCC (power) "Positive Input Supply Voltage. When VBAT is within 54mV of VCC, the LTC1731 is forced into sleep mode, dropping ICC to 7uA. VCC ranges from 4.5V to 12V. Bypass this pin with a 1uF capacitor.", 8 SENSE (in) "Current Sense Input. A sense resistor, RSENSE, must be connected from VCC to the SENSE pin. This resistor is chosen using the following equation: RSENSE = (VPROG x 800ohm)/(RPROG x IBAT)"

## LTC1731EMS8-4.1#PBF
designator U?
Linear Charger with AC Adapter Detection, 4.5 to 12 V Vin, 8-pin SOP (MS8-8), -40 to 85 degC, Pb-Free; Manufacturer: Linear Technology; PartNumber: LTC1731EMS8-4.1#PBF; Battery Chemistry: Li-Ion, Li-Polymer; Charge Termination: On-board timer; Float Voltage: 4.1 V; Number of Cells: 1; Vin Max(V): 12; Vin Min(V): 4.5; PackageVersion: Rev. G, 03/2012; PackageReference: MS8-8; PackageDescription: 8-Pin Plastic MSOP, Body 3 x 3 mm, Pitch 0.65 mm; Supplier 1: Digi-Key; Supplier Part Number 1: LTC1731EMS8-4.1#PBF-ND; Supplier 2: Farnell; Supplier Part Number 2: 1648010; RoHS: TRUE; Type of Charger: Linear; Mounting Technology: Surface Mount; ComponentLink1Description: Manufacturer URL; ComponentLink1URL: http://www.linear.com/; ComponentLink2Description: Datasheet; ComponentLink2URL: http://cds.linear.com/docs/en/datasheet/1731f.pdf; ComponentLink3Description: Package Specification; ComponentLink3URL: http://cds.linear.com/docs/en/packaging/05081660_G_MS8.pdf
footprint LT-MS8-8_N (SOP, 8-Leads, Body 3.1x3.1mm, Pitch 0.65mm, IPC Medium Density)
footprint LT-MS8-8_L (SOP, 8-Leads, Body 3.1x3.1mm, Pitch 0.65mm, IPC High Density)
footprint LT-MS8-8_M (SOP, 8-Leads, Body 3.1x3.1mm, Pitch 0.65mm, IPC Low Density)
pins: 1 BAT (in) "Battery Sense Input. A bypass capacitor of at least 10uF is required to keep the loop stable when the battery is not connected. A precision internal resistor divider sets the final float potential on this pin. The resistor (See Datasheet)", 2 ~{CHRG} (hiz) "Open-Drain Charge Status Output. When the battery is being charged, the C\H\R\G\ pin is pulled low by an internal N-channel MOSFET. When the charge current drops to 10% of the full-scale current for at least 0.32 seconds, (See Datasheet)", 3 TIMER (in) "Timer Capacitor and Constant-Voltage Mode Disable Input Pin. The timer period is set by placing a capacitor, CTIMER, to GND. The timer period is tTIMER =(CTIMER x 3 hours)/(0.1uF). When the TIMER pin is connected to VCC, the (See Datasheet)", 4 GND (power) "Ground Connection", 5 PROG (in) "Charge Current Program and Shutdown Input Pin. The charge current is programmed by connecting a resistor, RPROG to ground. The charge current is IBAT = (VPROG x 800ohm)/(RPROG x RSENSE). The IC can be forced into shutdown by (See Datasheet)", 6 DRV (hiz) "Drive Output Pin for the P-Channel MOSFET or PNP Transistor. The impedance is high at this pin, therefore, a high beta PNP pass transistor should be used. The DRV pin is internally clamped to 6.5V below VCC.", 7 VCC (power) "Positive Input Supply Voltage. When VBAT is within 54mV of VCC, the LTC1731 is forced into sleep mode, dropping ICC to 7uA. VCC ranges from 4.5V to 12V. Bypass this pin with a 1uF capacitor.", 8 SENSE (in) "Current Sense Input. A sense resistor, RSENSE, must be connected from VCC to the SENSE pin. This resistor is chosen using the following equation: RSENSE = (VPROG x 800ohm)/(RPROG x IBAT)"

## LTC1731EMS8-4.1#TR
designator U?
Linear Charger with AC Adapter Detection, 4.5 to 12 V Vin, 8-pin SOP (MS8-8), -40 to 85 degC, Tape and Reel; Manufacturer: Linear Technology; PartNumber: LTC1731EMS8-4.1#TR; Battery Chemistry: Li-Ion, Li-Polymer; Charge Termination: On-board timer; Float Voltage: 4.1 V; Number of Cells: 1; Vin Max(V): 12; Vin Min(V): 4.5; PackageVersion: Rev. G, 03/2012; PackageReference: MS8-8; PackageDescription: 8-Pin Plastic MSOP, Body 3 x 3 mm, Pitch 0.65 mm; Supplier 1: Digi-Key; Supplier Part Number 1: LTC1731EMS8-4.1TR-ND; Packing: Tape and Reel; RoHS: FALSE; Type of Charger: Linear; Mounting Technology: Surface Mount; ComponentLink1Description: Manufacturer URL; ComponentLink1URL: http://www.linear.com/; ComponentLink2Description: Datasheet; ComponentLink2URL: http://cds.linear.com/docs/en/datasheet/1731f.pdf; ComponentLink3Description: Package Specification; ComponentLink3URL: http://cds.linear.com/docs/en/packaging/05081660_G_MS8.pdf
footprint LT-MS8-8_N (SOP, 8-Leads, Body 3.1x3.1mm, Pitch 0.65mm, IPC Medium Density)
footprint LT-MS8-8_L (SOP, 8-Leads, Body 3.1x3.1mm, Pitch 0.65mm, IPC High Density)
footprint LT-MS8-8_M (SOP, 8-Leads, Body 3.1x3.1mm, Pitch 0.65mm, IPC Low Density)
pins: 1 BAT (in) "Battery Sense Input. A bypass capacitor of at least 10uF is required to keep the loop stable when the battery is not connected. A precision internal resistor divider sets the final float potential on this pin. The resistor (See Datasheet)", 2 ~{CHRG} (hiz) "Open-Drain Charge Status Output. When the battery is being charged, the C\H\R\G\ pin is pulled low by an internal N-channel MOSFET. When the charge current drops to 10% of the full-scale current for at least 0.32 seconds, (See Datasheet)", 3 TIMER (in) "Timer Capacitor and Constant-Voltage Mode Disable Input Pin. The timer period is set by placing a capacitor, CTIMER, to GND. The timer period is tTIMER =(CTIMER x 3 hours)/(0.1uF). When the TIMER pin is connected to VCC, the (See Datasheet)", 4 GND (power) "Ground Connection", 5 PROG (in) "Charge Current Program and Shutdown Input Pin. The charge current is programmed by connecting a resistor, RPROG to ground. The charge current is IBAT = (VPROG x 800ohm)/(RPROG x RSENSE). The IC can be forced into shutdown by (See Datasheet)", 6 DRV (hiz) "Drive Output Pin for the P-Channel MOSFET or PNP Transistor. The impedance is high at this pin, therefore, a high beta PNP pass transistor should be used. The DRV pin is internally clamped to 6.5V below VCC.", 7 VCC (power) "Positive Input Supply Voltage. When VBAT is within 54mV of VCC, the LTC1731 is forced into sleep mode, dropping ICC to 7uA. VCC ranges from 4.5V to 12V. Bypass this pin with a 1uF capacitor.", 8 SENSE (in) "Current Sense Input. A sense resistor, RSENSE, must be connected from VCC to the SENSE pin. This resistor is chosen using the following equation: RSENSE = (VPROG x 800ohm)/(RPROG x IBAT)"

## LTC1731EMS8-4.1#TRPBF
designator U?
Linear Charger with AC Adapter Detection, 4.5 to 12 V Vin, 8-pin SOP (MS8-8), -40 to 85 degC, Pb-Free, Tape and Reel; Manufacturer: Linear Technology; PartNumber: LTC1731EMS8-4.1#TRPBF; Battery Chemistry: Li-Ion, Li-Polymer; Charge Termination: On-board timer; Float Voltage: 4.1 V; Number of Cells: 1; Vin Max(V): 12; Vin Min(V): 4.5; PackageVersion: Rev. G, 03/2012; PackageReference: MS8-8; PackageDescription: 8-Pin Plastic MSOP, Body 3 x 3 mm, Pitch 0.65 mm; Supplier 1: Digi-Key; Supplier Part Number 1: LTC1731EMS8-4.1#TRPBF-ND; Packing: Tape and Reel; RoHS: TRUE; Type of Charger: Linear; Mounting Technology: Surface Mount; ComponentLink1Description: Manufacturer URL; ComponentLink1URL: http://www.linear.com/; ComponentLink2Description: Datasheet; ComponentLink2URL: http://cds.linear.com/docs/en/datasheet/1731f.pdf; ComponentLink3Description: Package Specification; ComponentLink3URL: http://cds.linear.com/docs/en/packaging/05081660_G_MS8.pdf
footprint LT-MS8-8_N (SOP, 8-Leads, Body 3.1x3.1mm, Pitch 0.65mm, IPC Medium Density)
footprint LT-MS8-8_L (SOP, 8-Leads, Body 3.1x3.1mm, Pitch 0.65mm, IPC High Density)
footprint LT-MS8-8_M (SOP, 8-Leads, Body 3.1x3.1mm, Pitch 0.65mm, IPC Low Density)
pins: 1 BAT (in) "Battery Sense Input. A bypass capacitor of at least 10uF is required to keep the loop stable when the battery is not connected. A precision internal resistor divider sets the final float potential on this pin. The resistor (See Datasheet)", 2 ~{CHRG} (hiz) "Open-Drain Charge Status Output. When the battery is being charged, the C\H\R\G\ pin is pulled low by an internal N-channel MOSFET. When the charge current drops to 10% of the full-scale current for at least 0.32 seconds, (See Datasheet)", 3 TIMER (in) "Timer Capacitor and Constant-Voltage Mode Disable Input Pin. The timer period is set by placing a capacitor, CTIMER, to GND. The timer period is tTIMER =(CTIMER x 3 hours)/(0.1uF). When the TIMER pin is connected to VCC, the (See Datasheet)", 4 GND (power) "Ground Connection", 5 PROG (in) "Charge Current Program and Shutdown Input Pin. The charge current is programmed by connecting a resistor, RPROG to ground. The charge current is IBAT = (VPROG x 800ohm)/(RPROG x RSENSE). The IC can be forced into shutdown by (See Datasheet)", 6 DRV (hiz) "Drive Output Pin for the P-Channel MOSFET or PNP Transistor. The impedance is high at this pin, therefore, a high beta PNP pass transistor should be used. The DRV pin is internally clamped to 6.5V below VCC.", 7 VCC (power) "Positive Input Supply Voltage. When VBAT is within 54mV of VCC, the LTC1731 is forced into sleep mode, dropping ICC to 7uA. VCC ranges from 4.5V to 12V. Bypass this pin with a 1uF capacitor.", 8 SENSE (in) "Current Sense Input. A sense resistor, RSENSE, must be connected from VCC to the SENSE pin. This resistor is chosen using the following equation: RSENSE = (VPROG x 800ohm)/(RPROG x IBAT)"